# Altium schematic symbol library SCH - MCU - STM32 - ST MICROELECTRONICS STM32H7B3IIKXQ UFBGA176.SchLib: 1 symbol
Pins are listed as number, name and electrical type; pins without a type are passive.

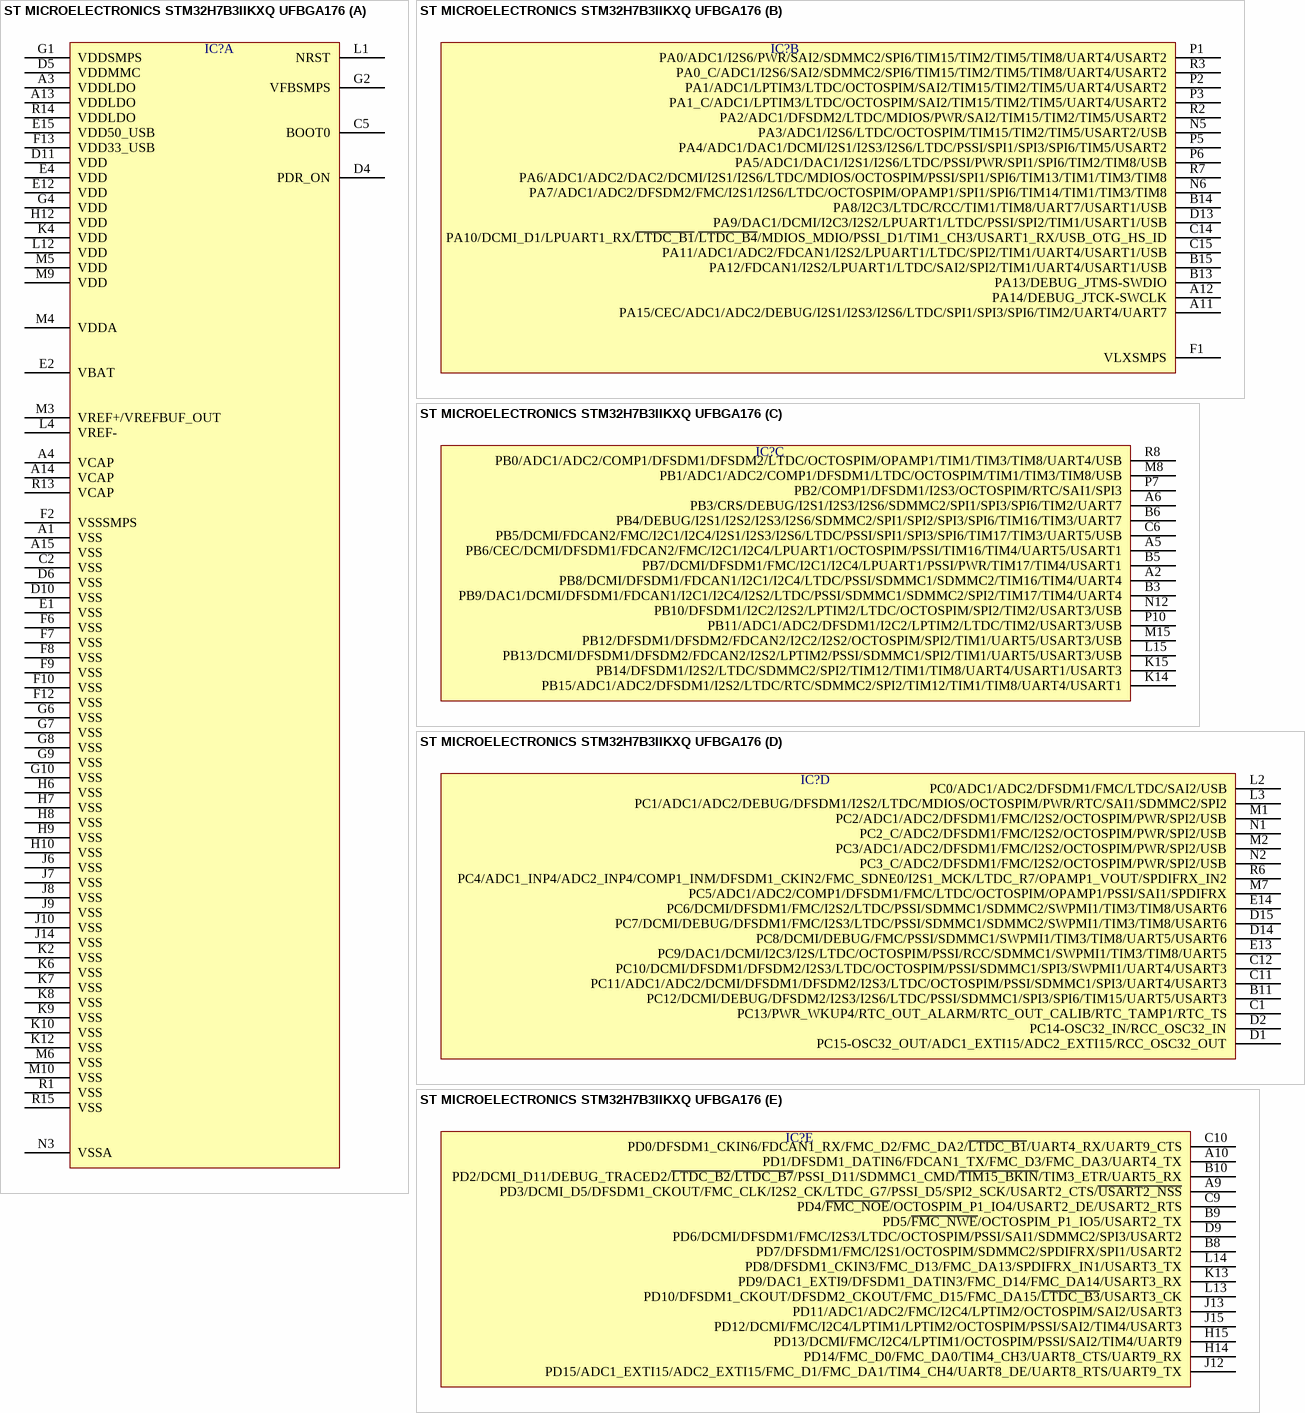
[diagram p0: symbol ST MICROELECTRONICS STM32H7B3IIKXQ UFBGA176]

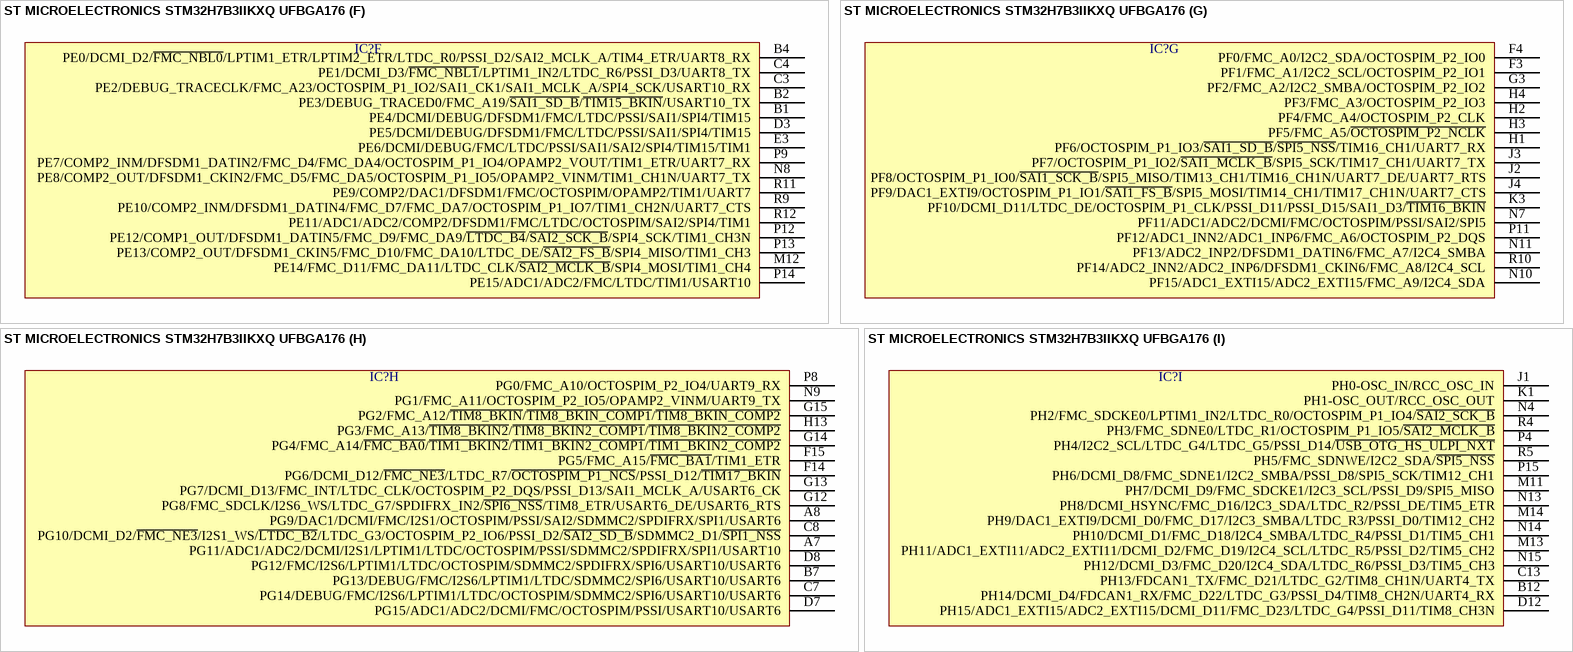
[diagram p1: symbol ST MICROELECTRONICS STM32H7B3IIKXQ UFBGA176]

## ST MICROELECTRONICS STM32H7B3IIKXQ UFBGA176
designator IC?  (value not drawn)
part A pins: A1 VSS, A3 VDDLDO, A4 VCAP, A13 VDDLDO, A14 VCAP, A15 VSS, C2 VSS, C5 BOOT0, D4 PDR_ON, D5 VDDMMC, D6 VSS, D10 VSS, D11 VDD, E1 VSS, E2 VBAT, E4 VDD, E12 VDD, E15 VDD50_USB, F2 VSSSMPS, F6 VSS, F7 VSS, F8 VSS, F9 VSS, F10 VSS, F12 VSS, F13 VDD33_USB, G1 VDDSMPS, G2 VFBSMPS, G4 VDD, G6 VSS, G7 VSS, G8 VSS, G9 VSS, G10 VSS, H6 VSS, H7 VSS, H8 VSS, H9 VSS, H10 VSS, H12 VDD, J6 VSS, J7 VSS, J8 VSS, J9 VSS, J10 VSS, J14 VSS, K2 VSS, K4 VDD, K6 VSS, K7 VSS, K8 VSS, K9 VSS, K10 VSS, K12 VSS, L1 NRST, L4 VREF-, L12 VDD, M3 VREF+/VREFBUF_OUT, M4 VDDA, M5 VDD, M6 VSS, M9 VDD, M10 VSS, N3 VSSA, R1 VSS, R13 VCAP, R14 VDDLDO, R15 VSS
part B pins: A11 PA15/CEC/ADC1/ADC2/DEBUG/I2S1/I2S3/I2S6/LTDC/SPI1/SPI3/SPI6/TIM2/UART4/UART7, A12 PA14/DEBUG_JTCK-SWCLK, B13 PA13/DEBUG_JTMS-SWDIO, B14 PA8/I2C3/LTDC/RCC/TIM1/TIM8/UART7/USART1/USB, B15 PA12/FDCAN1/I2S2/LPUART1/LTDC/SAI2/SPI2/TIM1/UART4/USART1/USB, C14 PA10/DCMI_D1/LPUART1_RX/~{LTDC_B1}/~{LTDC_B4}/MDIOS_MDIO/PSSI_D1/TIM1_CH3/USART1_RX/USB_OTG_HS_ID, C15 PA11/ADC1/ADC2/FDCAN1/I2S2/LPUART1/LTDC/SPI2/TIM1/UART4/USART1/USB, D13 PA9/DAC1/DCMI/I2C3/I2S2/LPUART1/LTDC/PSSI/SPI2/TIM1/USART1/USB, F1 VLXSMPS, N5 PA3/ADC1/I2S6/LTDC/OCTOSPIM/TIM15/TIM2/TIM5/USART2/USB, N6 PA7/ADC1/ADC2/DFSDM2/FMC/I2S1/I2S6/LTDC/OCTOSPIM/OPAMP1/SPI1/SPI6/TIM14/TIM1/TIM3/TIM8, P1 PA0/ADC1/I2S6/PWR/SAI2/SDMMC2/SPI6/TIM15/TIM2/TIM5/TIM8/UART4/USART2, P2 PA1/ADC1/LPTIM3/LTDC/OCTOSPIM/SAI2/TIM15/TIM2/TIM5/UART4/USART2, P3 PA1_C/ADC1/LPTIM3/LTDC/OCTOSPIM/SAI2/TIM15/TIM2/TIM5/UART4/USART2, P5 PA4/ADC1/DAC1/DCMI/I2S1/I2S3/I2S6/LTDC/PSSI/SPI1/SPI3/SPI6/TIM5/USART2, P6 PA5/ADC1/DAC1/I2S1/I2S6/LTDC/PSSI/PWR/SPI1/SPI6/TIM2/TIM8/USB, R2 PA2/ADC1/DFSDM2/LTDC/MDIOS/PWR/SAI2/TIM15/TIM2/TIM5/USART2, R3 PA0_C/ADC1/I2S6/SAI2/SDMMC2/SPI6/TIM15/TIM2/TIM5/TIM8/UART4/USART2, R7 PA6/ADC1/ADC2/DAC2/DCMI/I2S1/I2S6/LTDC/MDIOS/OCTOSPIM/PSSI/SPI1/SPI6/TIM13/TIM1/TIM3/TIM8
part C pins: A2 PB8/DCMI/DFSDM1/FDCAN1/I2C1/I2C4/LTDC/PSSI/SDMMC1/SDMMC2/TIM16/TIM4/UART4, A5 PB6/CEC/DCMI/DFSDM1/FDCAN2/FMC/I2C1/I2C4/LPUART1/OCTOSPIM/PSSI/TIM16/TIM4/UART5/USART1, A6 PB3/CRS/DEBUG/I2S1/I2S3/I2S6/SDMMC2/SPI1/SPI3/SPI6/TIM2/UART7, B3 PB9/DAC1/DCMI/DFSDM1/FDCAN1/I2C1/I2C4/I2S2/LTDC/PSSI/SDMMC1/SDMMC2/SPI2/TIM17/TIM4/UART4, B5 PB7/DCMI/DFSDM1/FMC/I2C1/I2C4/LPUART1/PSSI/PWR/TIM17/TIM4/USART1, B6 PB4/DEBUG/I2S1/I2S2/I2S3/I2S6/SDMMC2/SPI1/SPI2/SPI3/SPI6/TIM16/TIM3/UART7, C6 PB5/DCMI/FDCAN2/FMC/I2C1/I2C4/I2S1/I2S3/I2S6/LTDC/PSSI/SPI1/SPI3/SPI6/TIM17/TIM3/UART5/USB, K14 PB15/ADC1/ADC2/DFSDM1/I2S2/LTDC/RTC/SDMMC2/SPI2/TIM12/TIM1/TIM8/UART4/USART1, K15 PB14/DFSDM1/I2S2/LTDC/SDMMC2/SPI2/TIM12/TIM1/TIM8/UART4/USART1/USART3, L15 PB13/DCMI/DFSDM1/DFSDM2/FDCAN2/I2S2/LPTIM2/PSSI/SDMMC1/SPI2/TIM1/UART5/USART3/USB, M8 PB1/ADC1/ADC2/COMP1/DFSDM1/LTDC/OCTOSPIM/TIM1/TIM3/TIM8/USB, M15 PB12/DFSDM1/DFSDM2/FDCAN2/I2C2/I2S2/OCTOSPIM/SPI2/TIM1/UART5/USART3/USB, N12 PB10/DFSDM1/I2C2/I2S2/LPTIM2/LTDC/OCTOSPIM/SPI2/TIM2/USART3/USB, P7 PB2/COMP1/DFSDM1/I2S3/OCTOSPIM/RTC/SAI1/SPI3, P10 PB11/ADC1/ADC2/DFSDM1/I2C2/LPTIM2/LTDC/TIM2/USART3/USB, R8 PB0/ADC1/ADC2/COMP1/DFSDM1/DFSDM2/LTDC/OCTOSPIM/OPAMP1/TIM1/TIM3/TIM8/UART4/USB
part D pins: B11 PC12/DCMI/DEBUG/DFSDM2/I2S3/I2S6/LTDC/PSSI/SDMMC1/SPI3/SPI6/TIM15/UART5/USART3, C1 PC13/PWR_WKUP4/RTC_OUT_ALARM/RTC_OUT_CALIB/RTC_TAMP1/RTC_TS, C11 PC11/ADC1/ADC2/DCMI/DFSDM1/DFSDM2/I2S3/LTDC/OCTOSPIM/PSSI/SDMMC1/SPI3/UART4/USART3, C12 PC10/DCMI/DFSDM1/DFSDM2/I2S3/LTDC/OCTOSPIM/PSSI/SDMMC1/SPI3/SWPMI1/UART4/USART3, D1 PC15-OSC32_OUT/ADC1_EXTI15/ADC2_EXTI15/RCC_OSC32_OUT, D2 PC14-OSC32_IN/RCC_OSC32_IN, D14 PC8/DCMI/DEBUG/FMC/PSSI/SDMMC1/SWPMI1/TIM3/TIM8/UART5/USART6, D15 PC7/DCMI/DEBUG/DFSDM1/FMC/I2S3/LTDC/PSSI/SDMMC1/SDMMC2/SWPMI1/TIM3/TIM8/USART6, E13 PC9/DAC1/DCMI/I2C3/I2S/LTDC/OCTOSPIM/PSSI/RCC/SDMMC1/SWPMI1/TIM3/TIM8/UART5, E14 PC6/DCMI/DFSDM1/FMC/I2S2/LTDC/PSSI/SDMMC1/SDMMC2/SWPMI1/TIM3/TIM8/USART6, L2 PC0/ADC1/ADC2/DFSDM1/FMC/LTDC/SAI2/USB, L3 PC1/ADC1/ADC2/DEBUG/DFSDM1/I2S2/LTDC/MDIOS/OCTOSPIM/PWR/RTC/SAI1/SDMMC2/SPI2, M1 PC2/ADC1/ADC2/DFSDM1/FMC/I2S2/OCTOSPIM/PWR/SPI2/USB, M2 PC3/ADC1/ADC2/DFSDM1/FMC/I2S2/OCTOSPIM/PWR/SPI2/USB, M7 PC5/ADC1/ADC2/COMP1/DFSDM1/FMC/LTDC/OCTOSPIM/OPAMP1/PSSI/SAI1/SPDIFRX, N1 PC2_C/ADC2/DFSDM1/FMC/I2S2/OCTOSPIM/PWR/SPI2/USB, N2 PC3_C/ADC2/DFSDM1/FMC/I2S2/OCTOSPIM/PWR/SPI2/USB, R6 PC4/ADC1_INP4/ADC2_INP4/COMP1_INM/DFSDM1_CKIN2/FMC_SDNE0/I2S1_MCK/LTDC_R7/OPAMP1_VOUT/SPDIFRX_IN2
part E pins: A9 PD3/DCMI_D5/DFSDM1_CKOUT/FMC_CLK/I2S2_CK/LTDC_G7/PSSI_D5/SPI2_SCK/USART2_CTS/~{USART2_NSS}, A10 PD1/DFSDM1_DATIN6/FDCAN1_TX/FMC_D3/FMC_DA3/UART4_TX, B8 PD7/DFSDM1/FMC/I2S1/OCTOSPIM/SDMMC2/SPDIFRX/SPI1/USART2, B9 PD5/~{FMC_NWE}/OCTOSPIM_P1_IO5/USART2_TX, B10 PD2/DCMI_D11/DEBUG_TRACED2/~{LTDC_B2}/~{LTDC_B7}/PSSI_D11/SDMMC1_CMD/~{TIM15_BKIN}/TIM3_ETR/UART5_RX, C9 PD4/~{FMC_NOE}/OCTOSPIM_P1_IO4/USART2_DE/USART2_RTS, C10 PD0/DFSDM1_CKIN6/FDCAN1_RX/FMC_D2/FMC_DA2/~{LTDC_B1}/UART4_RX/UART9_CTS, D9 PD6/DCMI/DFSDM1/FMC/I2S3/LTDC/OCTOSPIM/PSSI/SAI1/SDMMC2/SPI3/USART2, H14 PD14/FMC_D0/FMC_DA0/TIM4_CH3/UART8_CTS/UART9_RX, H15 PD13/DCMI/FMC/I2C4/LPTIM1/OCTOSPIM/PSSI/SAI2/TIM4/UART9, J12 PD15/ADC1_EXTI15/ADC2_EXTI15/FMC_D1/FMC_DA1/TIM4_CH4/UART8_DE/UART8_RTS/UART9_TX, J13 PD11/ADC1/ADC2/FMC/I2C4/LPTIM2/OCTOSPIM/SAI2/USART3, J15 PD12/DCMI/FMC/I2C4/LPTIM1/LPTIM2/OCTOSPIM/PSSI/SAI2/TIM4/USART3, K13 PD9/DAC1_EXTI9/DFSDM1_DATIN3/FMC_D14/FMC_DA14/USART3_RX, L13 PD10/DFSDM1_CKOUT/DFSDM2_CKOUT/FMC_D15/FMC_DA15/~{LTDC_B3}/USART3_CK, L14 PD8/DFSDM1_CKIN3/FMC_D13/FMC_DA13/SPDIFRX_IN1/USART3_TX
part F pins: B1 PE4/DCMI/DEBUG/DFSDM1/FMC/LTDC/PSSI/SAI1/SPI4/TIM15, B2 PE3/DEBUG_TRACED0/FMC_A19/~{SAI1_SD_B}/~{TIM15_BKIN}/USART10_TX, B4 PE0/DCMI_D2/~{FMC_NBL0}/LPTIM1_ETR/LPTIM2_ETR/LTDC_R0/PSSI_D2/SAI2_MCLK_A/TIM4_ETR/UART8_RX, C3 PE2/DEBUG_TRACECLK/FMC_A23/OCTOSPIM_P1_IO2/SAI1_CK1/SAI1_MCLK_A/SPI4_SCK/USART10_RX, C4 PE1/DCMI_D3/~{FMC_NBL1}/LPTIM1_IN2/LTDC_R6/PSSI_D3/UART8_TX, D3 PE5/DCMI/DEBUG/DFSDM1/FMC/LTDC/PSSI/SAI1/SPI4/TIM15, E3 PE6/DCMI/DEBUG/FMC/LTDC/PSSI/SAI1/SAI2/SPI4/TIM15/TIM1, M12 PE14/FMC_D11/FMC_DA11/LTDC_CLK/~{SAI2_MCLK_B}/SPI4_MOSI/TIM1_CH4, N8 PE8/COMP2_OUT/DFSDM1_CKIN2/FMC_D5/FMC_DA5/OCTOSPIM_P1_IO5/OPAMP2_VINM/TIM1_CH1N/UART7_TX, P9 PE7/COMP2_INM/DFSDM1_DATIN2/FMC_D4/FMC_DA4/OCTOSPIM_P1_IO4/OPAMP2_VOUT/TIM1_ETR/UART7_RX, P12 PE12/COMP1_OUT/DFSDM1_DATIN5/FMC_D9/FMC_DA9/~{LTDC_B4}/~{SAI2_SCK_B}/SPI4_SCK/TIM1_CH3N, P13 PE13/COMP2_OUT/DFSDM1_CKIN5/FMC_D10/FMC_DA10/LTDC_DE/~{SAI2_FS_B}/SPI4_MISO/TIM1_CH3, P14 PE15/ADC1/ADC2/FMC/LTDC/TIM1/USART10, R9 PE10/COMP2_INM/DFSDM1_DATIN4/FMC_D7/FMC_DA7/OCTOSPIM_P1_IO7/TIM1_CH2N/UART7_CTS, R11 PE9/COMP2/DAC1/DFSDM1/FMC/OCTOSPIM/OPAMP2/TIM1/UART7, R12 PE11/ADC1/ADC2/COMP2/DFSDM1/FMC/LTDC/OCTOSPIM/SAI2/SPI4/TIM1
part G pins: F3 PF1/FMC_A1/I2C2_SCL/OCTOSPIM_P2_IO1, F4 PF0/FMC_A0/I2C2_SDA/OCTOSPIM_P2_IO0, G3 PF2/FMC_A2/I2C2_SMBA/OCTOSPIM_P2_IO2, H1 PF6/OCTOSPIM_P1_IO3/~{SAI1_SD_B}/~{SPI5_NSS}/TIM16_CH1/UART7_RX, H2 PF4/FMC_A4/OCTOSPIM_P2_CLK, H3 PF5/FMC_A5/~{OCTOSPIM_P2_NCLK}, H4 PF3/FMC_A3/OCTOSPIM_P2_IO3, J2 PF8/OCTOSPIM_P1_IO0/~{SAI1_SCK_B}/SPI5_MISO/TIM13_CH1/TIM16_CH1N/UART7_DE/UART7_RTS, J3 PF7/OCTOSPIM_P1_IO2/~{SAI1_MCLK_B}/SPI5_SCK/TIM17_CH1/UART7_TX, J4 PF9/DAC1_EXTI9/OCTOSPIM_P1_IO1/~{SAI1_FS_B}/SPI5_MOSI/TIM14_CH1/TIM17_CH1N/UART7_CTS, K3 PF10/DCMI_D11/LTDC_DE/OCTOSPIM_P1_CLK/PSSI_D11/PSSI_D15/SAI1_D3/~{TIM16_BKIN}, N7 PF11/ADC1/ADC2/DCMI/FMC/OCTOSPIM/PSSI/SAI2/SPI5, N10 PF15/ADC1_EXTI15/ADC2_EXTI15/FMC_A9/I2C4_SDA, N11 PF13/ADC2_INP2/DFSDM1_DATIN6/FMC_A7/I2C4_SMBA, P11 PF12/ADC1_INN2/ADC1_INP6/FMC_A6/OCTOSPIM_P2_DQS, R10 PF14/ADC2_INN2/ADC2_INP6/DFSDM1_CKIN6/FMC_A8/I2C4_SCL
part H pins: A7 PG11/ADC1/ADC2/DCMI/I2S1/LPTIM1/LTDC/OCTOSPIM/PSSI/SDMMC2/SPDIFRX/SPI1/USART10, A8 PG9/DAC1/DCMI/FMC/I2S1/OCTOSPIM/PSSI/SAI2/SDMMC2/SPDIFRX/SPI1/USART6, B7 PG13/DEBUG/FMC/I2S6/LPTIM1/LTDC/SDMMC2/SPI6/USART10/USART6, C7 PG14/DEBUG/FMC/I2S6/LPTIM1/LTDC/OCTOSPIM/SDMMC2/SPI6/USART10/USART6, C8 PG10/DCMI_D2/~{FMC_NE3}/I2S1_WS/~{LTDC_B2}/LTDC_G3/OCTOSPIM_P2_IO6/PSSI_D2/~{SAI2_SD_B}/SDMMC2_D1/~{SPI1_NSS}, D7 PG15/ADC1/ADC2/DCMI/FMC/OCTOSPIM/PSSI/USART10/USART6, D8 PG12/FMC/I2S6/LPTIM1/LTDC/OCTOSPIM/SDMMC2/SPDIFRX/SPI6/USART10/USART6, F14 PG6/DCMI_D12/~{FMC_NE3}/LTDC_R7/~{OCTOSPIM_P1_NCS}/PSSI_D12/~{TIM17_BKIN}, F15 PG5/FMC_A15/~{FMC_BA1}/TIM1_ETR, G12 PG8/FMC_SDCLK/I2S6_WS/LTDC_G7/SPDIFRX_IN2/~{SPI6_NSS}/TIM8_ETR/USART6_DE/USART6_RTS, G13 PG7/DCMI_D13/FMC_INT/LTDC_CLK/OCTOSPIM_P2_DQS/PSSI_D13/SAI1_MCLK_A/USART6_CK, G14 PG4/FMC_A14/~{FMC_BA0}/~{TIM1_BKIN2}/~{TIM1_BKIN2_COMP1}/~{TIM1_BKIN2_COMP2}, G15 PG2/FMC_A12/~{TIM8_BKIN}/~{TIM8_BKIN_COMP1}/~{TIM8_BKIN_COMP2}, H13 PG3/FMC_A13/~{TIM8_BKIN2}/~{TIM8_BKIN2_COMP1}/~{TIM8_BKIN2_COMP2}, N9 PG1/FMC_A11/OCTOSPIM_P2_IO5/OPAMP2_VINM/UART9_TX, P8 PG0/FMC_A10/OCTOSPIM_P2_IO4/UART9_RX
part I pins: B12 PH14/DCMI_D4/FDCAN1_RX/FMC_D22/LTDC_G3/PSSI_D4/TIM8_CH2N/UART4_RX, C13 PH13/FDCAN1_TX/FMC_D21/LTDC_G2/TIM8_CH1N/UART4_TX, D12 PH15/ADC1_EXTI15/ADC2_EXTI15/DCMI_D11/FMC_D23/LTDC_G4/PSSI_D11/TIM8_CH3N, J1 PH0-OSC_IN/RCC_OSC_IN, K1 PH1-OSC_OUT/RCC_OSC_OUT, M11 PH7/DCMI_D9/FMC_SDCKE1/I2C3_SCL/PSSI_D9/SPI5_MISO, M13 PH11/ADC1_EXTI11/ADC2_EXTI11/DCMI_D2/FMC_D19/I2C4_SCL/LTDC_R5/PSSI_D2/TIM5_CH2, M14 PH9/DAC1_EXTI9/DCMI_D0/FMC_D17/I2C3_SMBA/LTDC_R3/PSSI_D0/TIM12_CH2, N4 PH2/FMC_SDCKE0/LPTIM1_IN2/LTDC_R0/OCTOSPIM_P1_IO4/~{SAI2_SCK_B}, N13 PH8/DCMI_HSYNC/FMC_D16/I2C3_SDA/LTDC_R2/PSSI_DE/TIM5_ETR, N14 PH10/DCMI_D1/FMC_D18/I2C4_SMBA/LTDC_R4/PSSI_D1/TIM5_CH1, N15 PH12/DCMI_D3/FMC_D20/I2C4_SDA/LTDC_R6/PSSI_D3/TIM5_CH3, P4 PH4/I2C2_SCL/LTDC_G4/LTDC_G5/PSSI_D14/~{USB_OTG_HS_ULPI_NXT}, P15 PH6/DCMI_D8/FMC_SDNE1/I2C2_SMBA/PSSI_D8/SPI5_SCK/TIM12_CH1, R4 PH3/FMC_SDNE0/LTDC_R1/OCTOSPIM_P1_IO5/~{SAI2_MCLK_B}, R5 PH5/FMC_SDNWE/I2C2_SDA/~{SPI5_NSS}